# Altium integrated library TS9013SCY_RMG.IntLib: 1 symbol
Pins are listed as number, name and electrical type; pins without a type are passive.

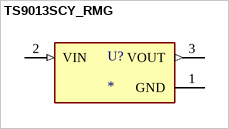
[diagram p0: symbol TS9013SCY_RMG]

## TS9013SCY_RMG
designator U?
0.5A 3.3V CMOS LDO; MF: Taiwan Semiconductor; MP: TS9013SCY RMG; SnapEDA_Link: https://www.snapeda.com/parts/TS9013SCY%20RMG/Taiwan+Semiconductor/view-part/?ref=snap; Package: SOT-89 Taiwan Semiconductor; Value: *; Check_prices: https://www.snapeda.com/parts/TS9013SCY%20RMG/Taiwan+Semiconductor/view-part/?ref=eda
footprint VREG_TS9013SCY_RMG
pins: 1 GND (power), 2 VIN (in), 3 VOUT (out)